# Altium schematic symbol library RTL8367RB.SchLib: 1 symbol
Pins are listed as number, name and electrical type; pins without a type are passive.

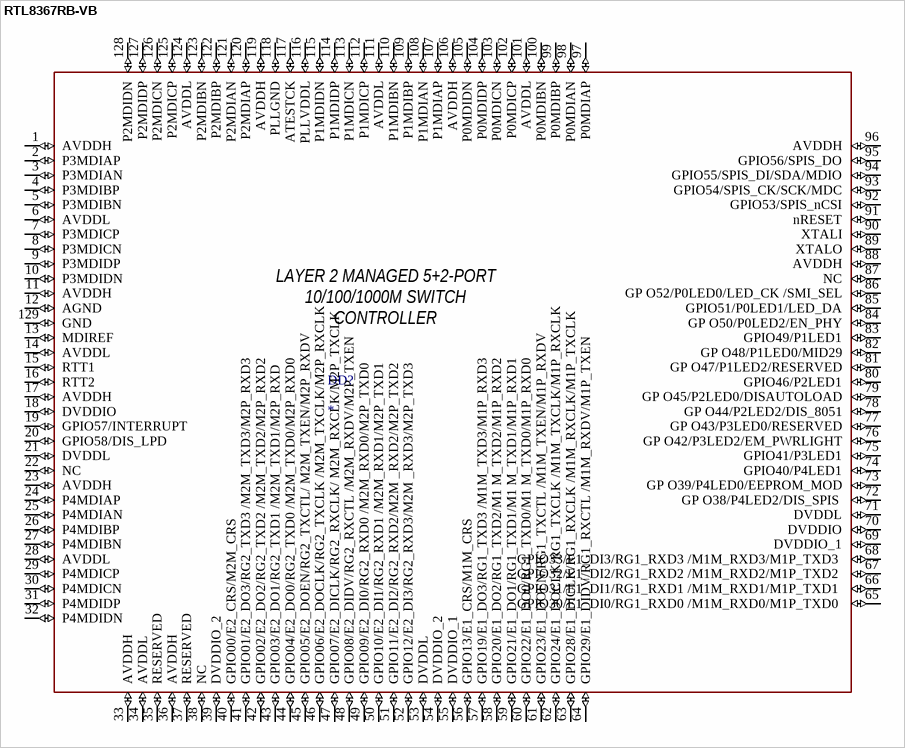
[diagram p0: symbol RTL8367RB-VB]

## RTL8367RB-VB
designator DD?
Управляемый коммутатор второго уронвя на 5+2 ПОРТА 10/100/1000M; MF: Realtek; MP: RTL8367RB; SnapEDA_Link: https://www.snapeda.com/parts/RTL8367RB/Realtek/view-part/?ref=snap; Package: None; Check_prices: https://www.snapeda.com/parts/RTL8367RB/Realtek/view-part/?ref=eda; Value: *
pins: 1 AVDDH (io), 2 P3MDIAP (io), 3 P3MDIAN (io), 4 P3MDIBP (io), 5 P3MDIBN (io), 6 AVDDL (io), 7 P3MDICP  (io), 8 P3MDICN (io), 9 P3MDIDP (io), 10 P3MDIDN (io), 11 AVDDH (io), 12 AGND (io), 13 MDIREF (io), 14 AVDDL (io), 15 RTT1 (io), 16 RTT2 (io), 17 AVDDH (io), 18 DVDDIO (io), 19 GPIO57/INTERRUPT (io), 20 GPIO58/DIS_LPD  (io), 21 DVDDL (io), 22 NC (io), 23 AVDDH (io), 24 P4MDIAP (io), 25 P4MDIAN (io), 26 P4MDIBP (io), 27 P4MDIBN (io), 28 AVDDL (io), 29 P4MDICP (io), 30 P4MDICN (io), 31 P4MDIDP (io), 32 P4MDIDN (io), 33 AVDDH (io), 34 AVDDL (io), 35 RESERVED (io), 36 AVDDH (io), 37 RESERVED (io), 38 NC (io), 39 DVDDIO_2 (io), 40 GPIO00/E2_CRS/M2M_CRS (io), 41 GPIO01/E2_DO3/RG2_TXD3 /M2M_TXD3/M2P_RXD3 (io), 42 GPIO02/E2_DO2/RG2_TXD2 /M2M_TXD2/M2P_RXD2  (io), 43 GPIO03/E2_DO1/RG2_TXD1 /M2M_TXD1/M2P_RXD (io), 44 GPIO04/E2_DO0/RG2_TXD0 /M2M_TXD0/M2P_RXD0 (io), 45 GPIO05/E2_DOEN/RG2_TXCTL/ M2M_TXEN/M2P_RXDV (io), 46 GPIO06/E2_DOCLK/RG2_TXCLK /M2M_TXCLK/M2P_RXCLK (io), 47 GPIO07/E2_DICLK/RG2_RXCLK/ M2M_RXCLK/M2P_TXCLK (io), 48 GPIO08/E2_DIDV/RG2_RXCTL /M2M_RXDV/M2P_TXEN  (io), 49 GPIO09/E2_DI0/RG2_RXD0 /M2M_RXD0/M2P_TXD0  (io), 50 GPIO10/E2_DI1/RG2_RXD1 /M2M_RXD1/M2P_TXD1  (io), 51 GPIO11/E2_DI2/RG2_RXD2/M2M _RXD2/M2P_TXD2 (io), 52 GPIO12/E2_DI3/RG2_RXD3/M2M _RXD3/M2P_TXD3  (io), 53 DVDDL (io), 54 DVDDIO_2 (io), 55 DVDDIO_1 (io), 56 GPIO13/E1_CRS/M1M_CRS (io), 57 GPIO19/E1_DO3/RG1_TXD3 /M1M_TXD3/M1P_RXD3 (io), 58 GPIO20/E1_DO2/RG1_TXD2/M1 M_TXD2/M1P_RXD2 (io), 59 GPIO21/E1_DO1/RG1_TXD1/M1 M_TXD1/M1P_RXD1 (io), 60 GPIO22/E1_DO0/RG1_TXD0/M1 M_TXD0/M1P_RXD0  (io), 61 GPIO23/E1_DOEN/RG1_TXCTL /M1M_TXEN/M1P_RXDV (io), 62 GPIO24/E1_DOCLK/RG1_TXCLK /M1M_TXCLK/M1P_RXCLK  (io), 63 GPIO28/E1_DICLK/RG1_RXCLK /M1M_RXCLK/M1P_TXCLK (io), 64 GPIO29/E1_DIDV/RG1_RXCTL /M1M_RXDV/M1P_TXEN  (io), 65 GPIO30/E1_DI0/RG1_RXD0 /M1M_RXD0/M1P_TXD0  (io), 66 GPIO31/E1_DI1/RG1_RXD1 /M1M_RXD1/M1P_TXD1  (io), 67 GPIO32/E1_DI2/RG1_RXD2 /M1M_RXD2/M1P_TXD2  (io), 68 GPIO33/E1_DI3/RG1_RXD3 /M1M_RXD3/M1P_TXD3  (io), 69 DVDDIO_1 (io), 70 DVDDIO (io), 71 DVDDL (io), 72 GP O38/P4LED2/DIS_SPIS  (io), 73 GP O39/P4LED0/EEPROM_MOD (io), 74 GPIO40/P4LED1 (io), 75 GPIO41/P3LED1 (io), 76 GP O42/P3LED2/EM_PWRLIGHT (io), 77 GP O43/P3LED0/RESERVED (io), 78 GP O44/P2LED2/DIS_8051 (io), 79 GP O45/P2LED0/DISAUTOLOAD (io), 80 GPIO46/P2LED1 (io), 81 GP O47/P1LED2/RESERVED (io), 82 GP O48/P1LED0/MID29 (io), 83 GPIO49/P1LED1 (io), 84 GP O50/P0LED2/EN_PHY (io), 85 GPIO51/P0LED1/LED_DA (io), 86 GP O52/P0LED0/LED_CK /SMI_SEL (io), 87 NC (io), 88 AVDDH (io), 89 XTALO (io), 90 XTALI (io), 91 nRESET (io), 92 GPIO53/SPIS_nCSI (io), 93 GPIO54/SPIS_CK/SCK/MDC (io), 94 GPIO55/SPIS_DI/SDA/MDIO (io), 95 GPIO56/SPIS_DO (io), 96 AVDDH (io), 97 P0MDIAP (io), 98 P0MDIAN (io), 99 P0MDIBP (io), 100 P0MDIBN (io), 101 AVDDL (io), 102 P0MDICP (io), 103 P0MDICN (io), 104 P0MDIDP (io), 105 P0MDIDN (io), 106 AVDDH (io), 107 P1MDIAP (io), 108 P1MDIAN (io), 109 P1MDIBP (io), 110 P1MDIBN (io), 111 AVDDL (io), 112 P1MDICP (io), 113 P1MDICN (io), 114 P1MDIDP (io), 115 P1MDIDN (io), 116 PLLVDDL (io), 117 ATESTCK (io), 118 PLLGND (io), 119 AVDDH (io), 120 P2MDIAP (io), 121 P2MDIAN (io), 122 P2MDIBP (io), 123 P2MDIBN (io), 124 AVDDL (io), 125 P2MDICP (io), 126 P2MDICN (io), 127 P2MDIDP (io), 128 P2MDIDN (io), 129 GND (io)
text: LAYER 2 MANAGED 5+2-PORT 10/100/1000M SWITCH CONTROLLER